# EAGLE library part AS-ITM-00383 (library tinycircuits)
IC ADC 12BIT I2C 3.3KSPS 10QFN
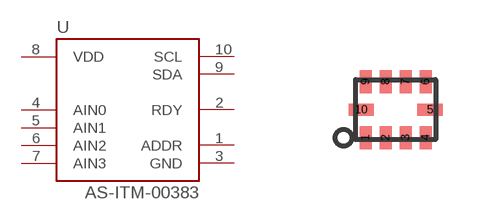
[diagram p155: symbol with the pads of R-PQFP-N10; footprint R-PQFP-N10]

Designator prefix U

## AS-ITM-00383 (PARTNO: AS-ITM-00383; VALUE: ADS1015)  [R-PQFP-N10]
1  ADDR
2  RDY
3  GND
4  AIN0
5  AIN1
6  AIN2
7  AIN3
8  VDD
9  SDA
10  SCL

## Footprint R-PQFP-N10 (pad centres in mm)
smd 0.3 x 0.58: 1 -0.75,-0.7; 2 -0.25,-0.7; 3 0.25,-0.7; 4 0.75,-0.7; 6 0.75,0.7; 7 0.25,0.7; 8 -0.25,0.7; 9 -0.75,0.7
smd 0.63 x 0.3: 5 0.86,0; 10 -0.86,0